# Altium schematic symbol library AnalogTemp.SchLib: 1 symbol
Pins are listed as number, name and electrical type; pins without a type are passive.

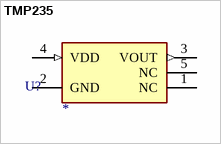
[diagram p0: symbol TMP235]

## TMP235
designator U?
Manufacturer 1: *; Manufacturer Part Number 1: *; Supplier 1: *; Supplier Part Number 1: *; ERP: *; Package: SOT-353; Value: *
footprint TMP235
pins: 1 NC, 2 GND (power), 3 VOUT (out), 4 VDD (in), 5 NC